# Altium footprint library Misc.SMD.PcbLib: 88 footprints (part 1 of 6)
Each footprint in its own frame and in the unit in brackets; x right, y up, seen from the top. Pads: shape width x height; smd on the part's side, far side on the other; paste and mask are expansions set on the pad; w line width, h text height; cw(c..) or ccw(c..) is an arc to the next point about the centre after c.
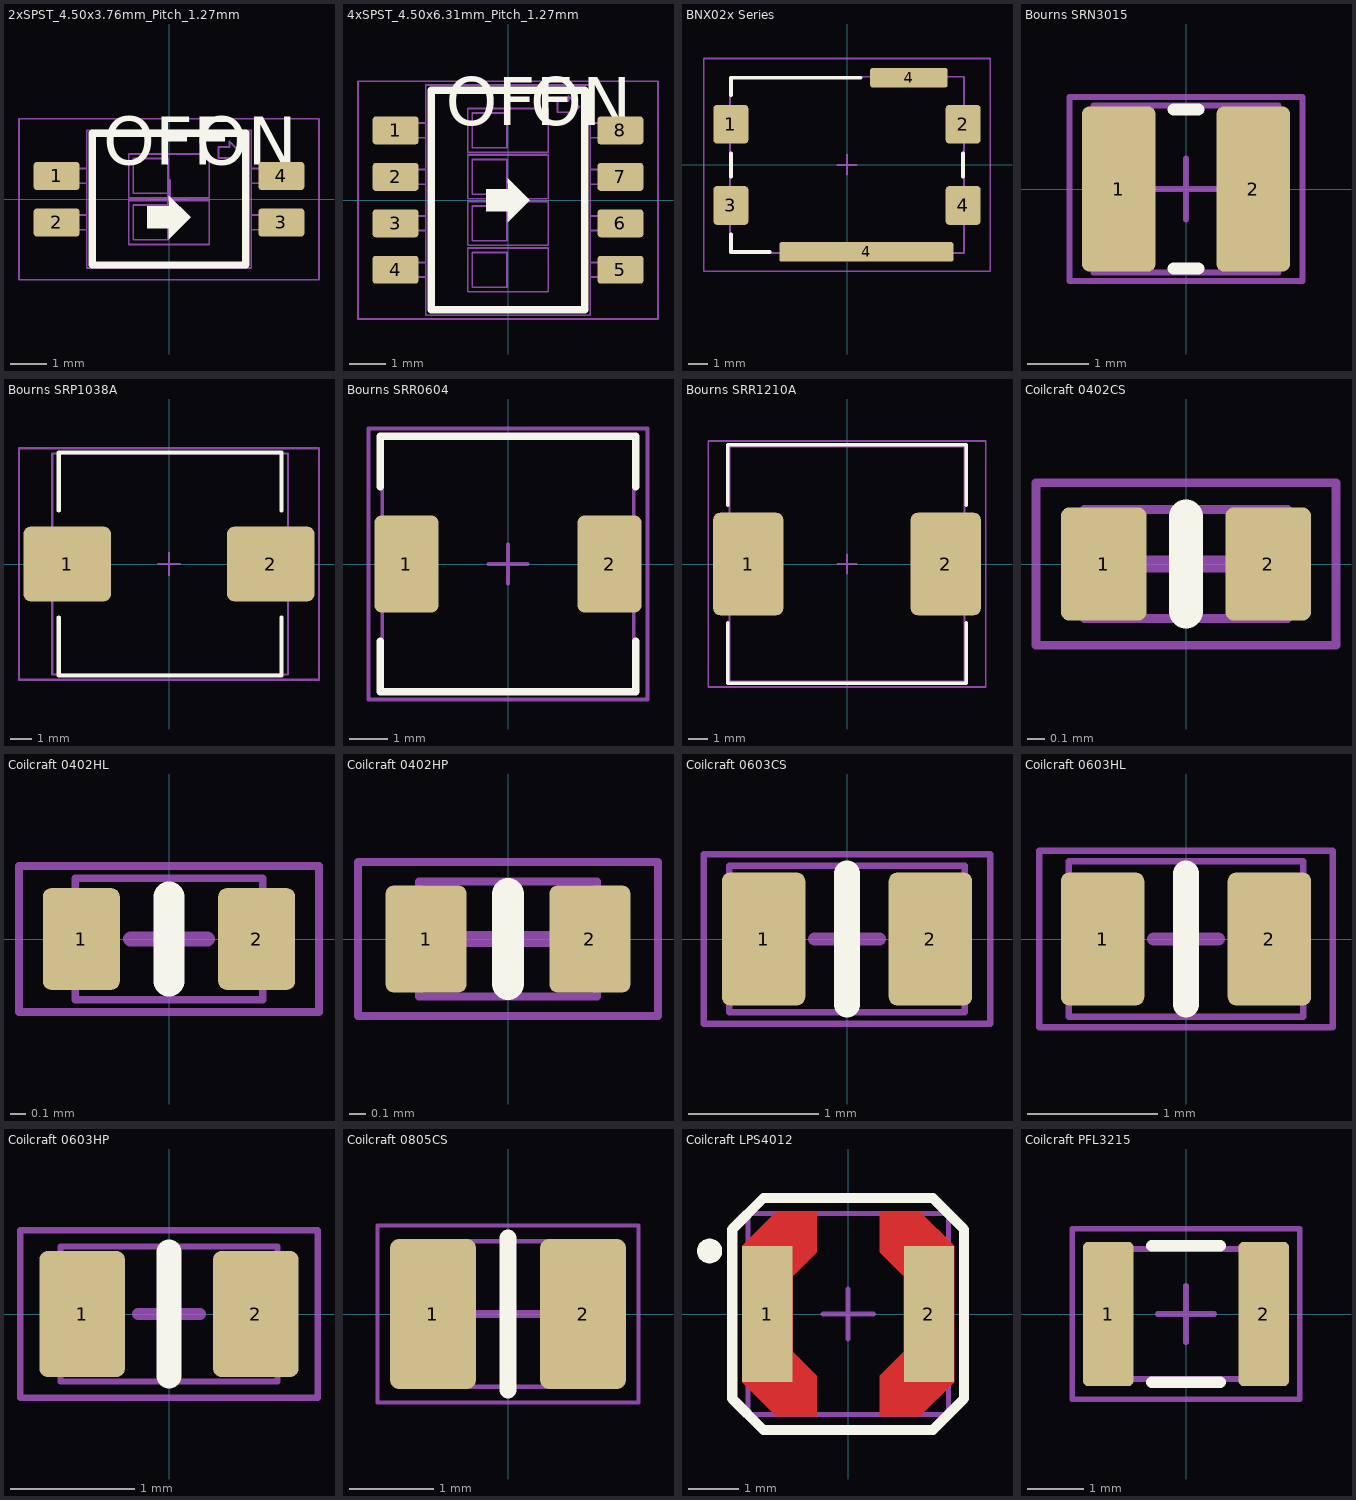
[diagram p0: the footprints below, top view; thin cyan lines are the x and y axes]

## 2xSPST_4.50x3.76mm_Pitch_1.27mm [mil] "Dual SPST Switch, 4.50x3.76mm Package, 1.27mm Pitch, 4-Leads"
height 55.91
pads (4):
  rrect20% 49.21x30 smd: 1(-121,25) 2(-121,-25) 3(121,-25) 4(121,25)
Top Overlay:
  region: -23.62,-31.5 0,-31.5 0,-43.31 23.62,-19.68 0,3.94 0,-7.87 -23.62,-7.87
  lines w7.87: -82.68,-70.87 82.68,-70.87 82.68,70.87 -82.68,70.87 -82.68,-70.87
  text "OFF" at -70.78,19.94 h88.58
  text "ON" at 28.64,19.94 h88.58
Mechanical 1:
  lines w1.97: -116.84,-32.87 -116.84,-17.13 ; -116.84,17.13 -116.84,32.87 ; -112.9,-32.87 -112.9,-17.13 ; -112.9,17.13 -112.9,32.87 ; -105.02,-32.87 -105.02,-17.13 ; -105.03,17.13 -105.02,32.87 ; -88.58,-32.87 -131.89,-32.87 -131.89,-17.13 -88.58,-17.13 ; -88.58,17.13 -131.89,17.13 -131.89,32.87 -88.58,32.87 ; 88.58,-32.87 131.89,-32.87 131.89,-17.13 88.58,-17.13 ; 88.58,17.13 131.89,17.13 131.89,32.87 88.58,32.87 ; 105.02,-32.87 105.03,-17.13 ; 105.02,17.13 105.02,32.87 ; 112.9,-32.87 112.9,-17.13 ; 112.9,17.13 112.9,32.87 ; 116.84,-32.87 116.84,-17.13 ; 116.84,17.13 116.84,32.87 ; -88.58,-74 -88.58,74 88.58,74 88.58,-74 -88.58,-74 ; -43.31,-48.62 43.31,-48.62 43.31,-1.38 -43.31,-1.38 -43.31,-48.62 ; -43.31,1.38 43.31,1.38 43.31,48.62 -43.31,48.62 -43.31,1.38 ; -38.39,-43.7 -38.39,-6.3 -0.98,-6.3 -0.98,-43.7 -38.39,-43.7 ; -38.39,6.3 -0.98,6.3 -0.98,43.7 -38.39,43.7 -38.39,6.3 ; 53.15,44.47 53.15,56.28 64.96,56.28 64.96,62.19 76.77,50.38 64.96,38.57 64.96,44.47 53.15,44.47
Mechanical 15:
  lines w1.97: -161.42,-86.61 161.42,-86.61 161.42,86.61 -161.42,86.61 -161.42,-86.61
  lines w3.94: -19.69,0 19.69,0 ; 0,-19.69 0,19.69
3D body "NHDS-02.STEP": height 65.75, standoff 0, extent -131.89,-74 131.89,74

## 4xSPST_4.50x6.31mm_Pitch_1.27mm [mil] "Dual SPST Switch, 4.50x6.31mm Package, 1.27mm Pitch, 4-Leads"
height 55.91
pads (8):
  rrect20% 49.21x30 smd: 1(-121,75) 2(-121,25) 3(-121,-25) 4(-121,-75) 5(121,-75) 6(121,-25) 7(121,25) 8(121,75)
Top Overlay:
  region: -23.62,-11.81 0,-11.81 0,-23.62 23.62,0 0,23.62 0,11.81 -23.62,11.81
  lines w7.87: -82.68,-118.11 82.68,-118.11 82.68,118.11 -82.68,118.11 -82.68,-118.11
  text "ON" at 24.21,63.25 h88.58
  text "OFF" at -66.93,63.25 h88.58
Mechanical 1:
  lines w1.97: -88.58,-82.87 -131.89,-82.87 -131.89,-67.13 -88.58,-67.13 ; -88.58,-32.87 -131.89,-32.87 -131.89,-17.13 -88.58,-17.13 ; -88.58,17.13 -131.89,17.13 -131.89,32.87 -88.58,32.87 ; -88.58,67.13 -131.89,67.13 -131.89,82.87 -88.58,82.87 ; 88.58,-82.87 131.89,-82.87 131.89,-67.13 88.58,-67.13 ; 88.58,-32.87 131.89,-32.87 131.89,-17.13 88.58,-17.13 ; 88.58,17.13 131.89,17.13 131.89,32.87 88.58,32.87 ; 88.58,67.13 131.89,67.13 131.89,82.87 88.58,82.87 ; -88.58,-124 88.58,-124 88.58,124 -88.58,124 -88.58,-124 ; -43.31,-98.62 43.31,-98.62 43.31,-51.38 -43.31,-51.38 -43.31,-98.62 ; -43.31,-48.62 43.31,-48.62 43.31,-1.38 -43.31,-1.38 -43.31,-48.62 ; -43.31,1.38 43.31,1.38 43.31,48.62 -43.31,48.62 -43.31,1.38 ; -43.31,51.38 43.31,51.38 43.31,98.62 -43.31,98.62 -43.31,51.38 ; -38.39,-93.7 -38.39,-56.3 -0.98,-56.3 -0.98,-93.7 -38.39,-93.7 ; -38.39,-43.7 -38.39,-6.3 -0.98,-6.3 -0.98,-43.7 -38.39,-43.7 ; -38.39,6.3 -38.39,43.7 -0.98,43.7 -0.98,6.3 -38.39,6.3 ; -38.39,56.3 -0.98,56.3 -0.98,93.7 -38.39,93.7 -38.39,56.3 ; 53.15,94.47 53.15,106.28 64.96,106.28 64.96,112.19 76.77,100.38 64.96,88.57 64.96,94.47 53.15,94.47
Mechanical 15:
  lines w1.97: -161.42,-127.95 161.42,-127.95 161.42,127.95 -161.42,127.95 -161.42,-127.95
  lines w3.94: -19.69,0 19.69,0 ; 0,-19.69 0,19.69
3D body "NHDS-04.STEP": height 65.75, standoff 0, extent -131.89,-124 131.89,124

## BNX02x Series [mm] "3.1"
height 0.5
pads (6):
  rrect20% 1.8x2 smd: 1(-6,2.1) 2(6,2.1) 3(-6,-2.1) 4(6,-2.1)
  rrect20% 9x1 smd: 4(1,-4.5)
  rrect20% 4x1 smd: 4(3.2,4.5)
Top Overlay:
  lines w0.2: -6,-3.6 -6,-4.5 -4,-4.5 ; -6,-0.6 -6,0.6 ; -6,3.6 -6,4.5 0.7,4.5 ; 6,-0.6 6,0.6
Mechanical 1:
  lines w0.1: -6.05,-4.55 6.05,-4.55 6.05,4.55 -6.05,4.55 -6.05,-4.55
Mechanical 15:
  lines w0.1: -0.5,0 0.5,0 ; 0,-0.5 0,0.5 ; -7.4,-5.5 -7.4,5.5 7.4,5.5 7.4,-5.5 -7.4,-5.5
3D body "Filter_BNX02x.STEP": height 3.1, standoff 0, extent -6.05,-4.55 6.05,4.55

## Bourns SRN3015 [mm]
height 1.5
pads (2):
  rrect20% 1.2x2.7 smd: 1(-1.1,0) 2(1.1,0)
Top Overlay:
  lines w0.2: -0.2,-1.3 0.2,-1.3 ; -0.2,1.3 0.2,1.3
Mechanical 1:
  lines w0.1: -1.51,-1.362 1.51,-1.362 1.51,1.362 -1.51,1.362 -1.51,-1.362
Mechanical 15:
  lines w0.1: -0.5,0 0.5,0 ; 0,-0.5 0,0.5 ; -1.9,-1.5 -1.9,1.5 1.9,1.5 1.9,-1.5 -1.9,-1.5
3D body "L_Bourns_SRN3015.STEP": height 1.49, standoff -0.01, extent -1.51,-1.362 1.51,1.362

## Bourns SRP1038A [mm]
pads (2):
  rrect20% 4.1x3.5 smd: 1(-4.75,0) 2(4.75,0)
Top Overlay:
  lines w0.2: -5.15,-2.5 -5.15,-5.2 5.25,-5.2 5.25,-2.5 ; -5.15,2.5 -5.15,5.2 5.25,5.2 5.25,2.5
Mechanical 1:
  lines w0.1: -5.45,-5.15 -5.45,5.15 5.55,5.15 5.55,-5.15 -5.45,-5.15
Mechanical 15:
  lines w0.1: -0.5,0 0.5,0 ; 0,-0.5 0,0.5 ; -7,-5.4 7,-5.4 7,5.4 -7,5.4 -7,-5.4
3D body "L_Bourns_SRP1038A.step": height 4, standoff 0, extent -5.45,-5.15 5.55,5.15

## Bourns SRR0604 [mm] "Precision Wire Wound Inductor, 2-Leads, Body 6,50x6,50mm, IPC Medium Density"
height 5
pads (2):
  rrect20% 1.65x2.5 smd: 1(-2.625,0) 2(2.625,0)
Top Overlay:
  lines w0.2: -3.3,-2 -3.3,-3.3 3.3,-3.3 3.3,-2 ; -3.3,2 -3.3,3.3 3.3,3.3 3.3,2
Mechanical 1:
  lines w0.1: -3.25,-3.25 -3.25,3.25 3.25,3.25 3.25,-3.25 -3.25,-3.25
Mechanical 15:
  lines w0.1: -0.5,0 0.5,0 ; 0,-0.5 0,0.5 ; -3.6,-3.5 -3.6,3.5 3.6,3.5 3.6,-3.5 -3.6,-3.5
3D body "L_Bourns_SRR0604.STEP": height 4.6, standoff 0, extent -3.25,-3.25 3.25,3.25

## Bourns SRR1210A [mm] "Precision Wire Wound Inductor, 2-Leads, Body 12,00x12,00mm, IPC Medium Density"
height 10
pads (2):
  rrect20% 3.6x5.25 smd: 1(-5.05,0) 2(5.05,0)
Top Overlay:
  lines w0.2: -6.1,-3.025 -6.1,-6.1 6.1,-6.1 6.1,-3.025 ; -6.1,3.025 -6.1,6.1 6.1,6.1 6.1,3.025
Mechanical 1:
  lines w0.1: -6.004,-6 -6.004,6 6.004,6 6.004,-6 -6.004,-6
Mechanical 15:
  lines w0.1: -0.5,0 0.5,0 ; 0,-0.5 0,0.5 ; -7.1,-6.3 7.1,-6.3 7.1,6.3 -7.1,6.3 -7.1,-6.3
3D body "L_Bourns_SRR1210A.step": height 10, standoff 0, extent -6.004,-6 6.004,6

## Coilcraft 0402CS [mm] "Coilcraft 0402CS Series Chip Inductor"
height 0.66
pads (2):
  rrect20% 0.5x0.66 smd: 1(-0.48,0) 2(0.48,0)
Top Overlay:
  lines w0.2: 0,-0.275 0,0.275
Mechanical 1:
  lines w0.05: -0.593,-0.318 0.593,-0.318 0.593,0.318 -0.593,0.318 -0.593,-0.318
Mechanical 15:
  lines w0.05: -0.875,-0.475 0.875,-0.475 0.875,0.475 -0.875,0.475 -0.875,-0.475
  lines w0.1: -0.25,0 0.25,0 ; 0,-0.25 0,0.25
3D body "L_Coilcraft_0402CS.step": height 0.65, standoff -0.01, extent -0.593,-0.318 0.593,0.318

## Coilcraft 0402HL [mm] "Coilcraft 0402HL Series Chip Inductor"
height 0.56
pads (2):
  rrect20% 0.5x0.66 smd: 1(-0.57,0) 2(0.57,0)
Top Overlay:
  lines w0.2: 0,-0.275 0,0.275
Mechanical 1:
  lines w0.05: -0.61,-0.395 -0.61,0.395 0.61,0.395 0.61,-0.395 -0.61,-0.395
Mechanical 15:
  lines w0.05: -0.975,-0.475 -0.975,0.475 0.975,0.475 0.975,-0.475 -0.975,-0.475
  lines w0.1: -0.25,0 0.25,0 ; 0,-0.25 0,0.25
3D body "Coilcraft-0402HL.step": height 0.55, standoff -0.01, extent -0.61,-0.395 0.61,0.395

## Coilcraft 0402HP [mm] "Coilcraft 0402HP Series Chip Inductor"
height 0.66
pads (2):
  rrect20% 0.5x0.66 smd: 1(-0.505,0) 2(0.505,0)
Top Overlay:
  lines w0.2: 0,-0.275 0,0.275
Mechanical 1:
  lines w0.05: -0.548,-0.356 -0.548,0.356 0.548,0.356 0.548,-0.356 -0.548,-0.356
Mechanical 15:
  lines w0.05: -0.925,-0.475 -0.925,0.475 0.925,0.475 0.925,-0.475 -0.925,-0.475
  lines w0.1: -0.25,0 0.25,0 ; 0,-0.25 0,0.25
3D body "Coilcraft-0402HP.step": height 0.6, standoff -0.01, extent -0.548,-0.356 0.548,0.356

## Coilcraft 0603CS [mm] "Coilcraft 0603CS Series Chip Inductor"
height 1.2
pads (2):
  rrect20% 0.64x1.02 smd: 1(-0.64,0) 2(0.64,0)
Top Overlay:
  lines w0.2: 0,-0.5 0,0.5
Mechanical 1:
  circle w0.05: c-0.654,0 r0.072
  lines w0.05: -0.902,-0.561 0.902,-0.561 0.902,0.561 -0.902,0.561 -0.902,-0.561
Mechanical 15:
  lines w0.05: -1.1,-0.65 1.1,-0.65 1.1,0.65 -1.1,0.65 -1.1,-0.65
  lines w0.1: -0.25,0 0.25,0 ; 0,-0.25 0,0.25
3D body "L_Coilcraft_0603CS.step": height 1.02, standoff -0.01, extent -0.902,-0.561 0.902,0.561

## Coilcraft 0603HL [mm] "Coilcraft 0603HL Series Chip Inductor"
height 0.94
pads (2):
  rrect20% 0.64x1.02 smd: 1(-0.64,0) 2(0.64,0)
Top Overlay:
  lines w0.2: 0,-0.5 0,0.5
Mechanical 1:
  lines w0.05: -0.9,-0.595 0.9,-0.595 0.9,0.595 -0.9,0.595 -0.9,-0.595
Mechanical 15:
  lines w0.05: -1.125,-0.675 1.125,-0.675 1.125,0.675 -1.125,0.675 -1.125,-0.675
  lines w0.1: -0.25,0 0.25,0 ; 0,-0.25 0,0.25
3D body "Coilcraft-0603HL.step": height 0.94, standoff 0, extent -0.9,-0.595 0.9,0.595

## Coilcraft 0603HP [mm] "Coilcraft 0603HP Series Chip Inductor"
height 0.94
pads (2):
  rrect20% 0.69x1.02 smd: 1(-0.7,0) 2(0.7,0)
Top Overlay:
  lines w0.2: 0,-0.5 0,0.5
Mechanical 1:
  circle w0.05: c-0.615,0 r0.07
  lines w0.05: -0.875,-0.545 -0.875,0.545 0.875,0.545 0.875,-0.545 -0.875,-0.545
Mechanical 15:
  lines w0.05: -1.2,-0.675 -1.2,0.675 1.2,0.675 1.2,-0.675 -1.2,-0.675
  lines w0.1: -0.25,0 0.25,0 ; 0,-0.25 0,0.25
3D body "Coilcraft-0603HP.step": height 0.94, standoff 0, extent -0.875,-0.545 0.875,0.545

## Coilcraft 0805CS [mm] "Coilcraft 0805CS-Series"
height 1.52
pads (2):
  rrect20% 1.02x1.78 smd: 1(-0.89,0) 2(0.89,0)
Top Overlay:
  lines w0.2: 0,-0.9 0,0.9
Mechanical 1:
  circle w0.05: c-0.846,0 r0.098
  lines w0.05: -1.145,-0.863 1.145,-0.863 1.145,0.863 -1.145,0.863 -1.145,-0.863
Mechanical 15:
  lines w0.05: -1.55,-1.05 -1.55,1.05 1.55,1.05 1.55,-1.05 -1.55,-1.05
  lines w0.1: -0.5,0 0.5,0 ; 0,-0.5 0,0.5
3D body "L_Coilcraft_0805CS.step": height 1.51, standoff -0.01, extent -1.145,-0.862 1.145,0.862

## Coilcraft LPS4012 [mm]
pads (3):
  rect 1x2.7 smd mask+0: 1(-1.604,0) 2(1.604,0)
  round 0.5 on Top Overlay: ""(-2.75,1.25)
Top Layer:
  region: 1.425,-2.029 2.104,-1.35 2.104,1.35 1.425,2.029 0.625,2.029 0.625,1.229 1.104,0.751 1.104,-0.751 0.625,-1.229 0.625,-2.029
  region: -1.425,-2.029 -2.104,-1.35 -2.104,1.35 -1.425,2.029 -0.625,2.029 -0.625,1.229 -1.104,0.751 -1.104,-0.751 -0.625,-1.229 -0.625,-2.029
Top Overlay:
  lines w0.2: -2.3,-1.68 -2.3,1.68 -1.68,2.3 1.68,2.3 2.3,1.68 2.3,-1.68 1.68,-2.3 -1.68,-2.3 -2.3,-1.68
Mechanical 1:
  lines w0.1: -1.99,-1.99 1.99,-1.99 1.99,1.99 -1.99,1.99 -1.99,-1.99
Mechanical 15:
  lines w0.1: -0.5,0 0.5,0 ; 0,-0.5 0,0.5
3D body "L_Coilcraft_LPS4012.STEP": height 1.1, standoff 0, extent -1.95,-1.95 1.95,1.95

## Coilcraft PFL3215 [mm]
pads (2):
  rrect20% 0.89x2.54 smd: 1(-1.37,0) 2(1.37,0)
Top Overlay:
  lines w0.2: -0.6,-1.2 0.6,-1.2 ; -0.6,1.2 0.6,1.2
Mechanical 1:
  lines w0.1: -1.6,-1.143 -1.6,1.143 1.6,1.143 1.6,-1.143 -1.6,-1.143
Mechanical 15:
  lines w0.1: -0.5,0 0.5,0 ; 0,-0.5 0,0.5 ; -2,-1.5 -2,1.5 2,1.5 2,-1.5 -2,-1.5
3D body "Coilcraft-PFL3215.step": height 1.49, standoff -0.01, extent -1.6,-1.143 1.6,1.143